# Altium footprint library MOLEX-PB-4-V.PcbLib: 1 footprints
Each footprint in its own frame and in the unit in brackets; x right, y up, seen from the top. Pads: shape width x height; smd on the part's side, far side on the other; paste and mask are expansions set on the pad; w line width, h text height; cw(c..) or ccw(c..) is an arc to the next point about the centre after c.
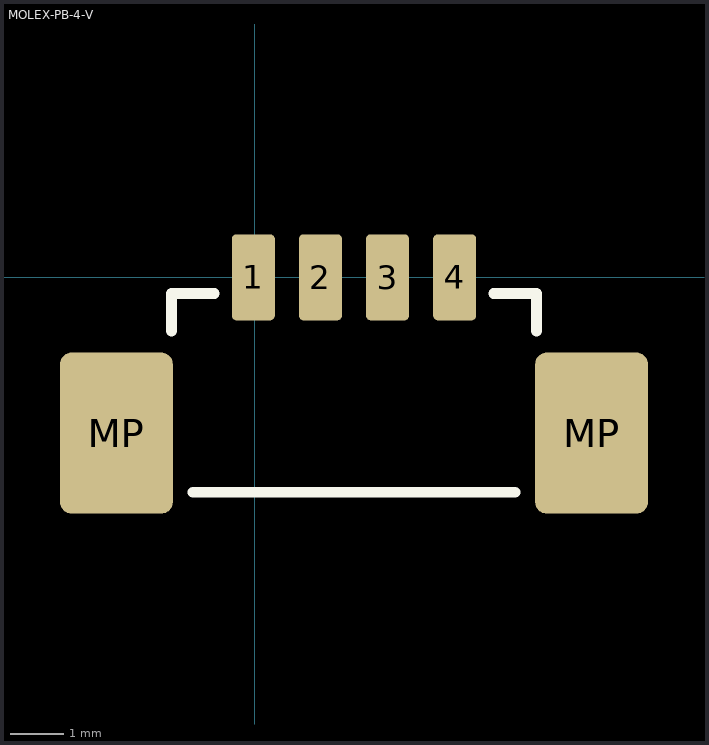
[diagram p0: the footprint, top view; thin cyan lines are the x and y axes]

## MOLEX-PB-4-V [mm]
pads (6):
  rrect20% 0.8x1.6 smd: 1(-0.025,0) 2(1.225,0) 3(2.475,0) 4(3.725,0)
  rrect20% 2.1x3 smd: MP(-2.575,-2.9) MP(6.275,-2.9)
Top Overlay:
  lines w0.2: -1.55,-1 -1.55,-0.3 -0.75,-0.3 ; -1.15,-4 4.85,-4 ; 4.45,-0.3 5.25,-0.3 ; 5.25,-1 5.25,-0.3 ; 5.25,-0.3 5.25,-0.3
3D body "User Library-molex 53398-04.step": height 4.7, standoff 0, extent -3.23,-3.97 6.92,0.23